# EAGLE library part ATTINY45 (library PFOP)
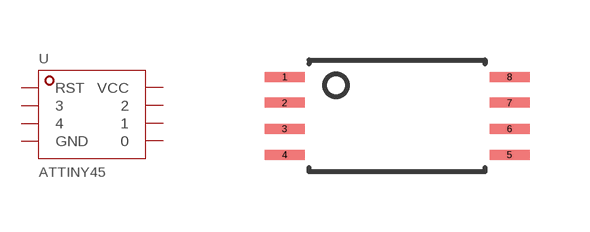
[diagram p0: symbol with the pads of TSSOP-8; footprint TSSOP-8]

Designator prefix U

## ATTINY45  [TSSOP-8]
1  RST
2  3
3  4
4  GND
5  0
6  1
7  2
8  VCC

## Footprint TSSOP-8 (pad centres in mm)
smd 1 x 0.25: 1 -2.813,0.975; 2 -2.813,0.325; 3 -2.813,-0.325; 4 -2.813,-0.975; 5 2.813,-0.975; 6 2.813,-0.325; 7 2.813,0.325; 8 2.813,0.975